# EAGLE library part 5_WAY_PUSH (library myParts)
pth2 - https://www.aliexpress.com/item/33020121294.html?spm=a2g0s.9042311.0.0.75f24c4dOQCrTt
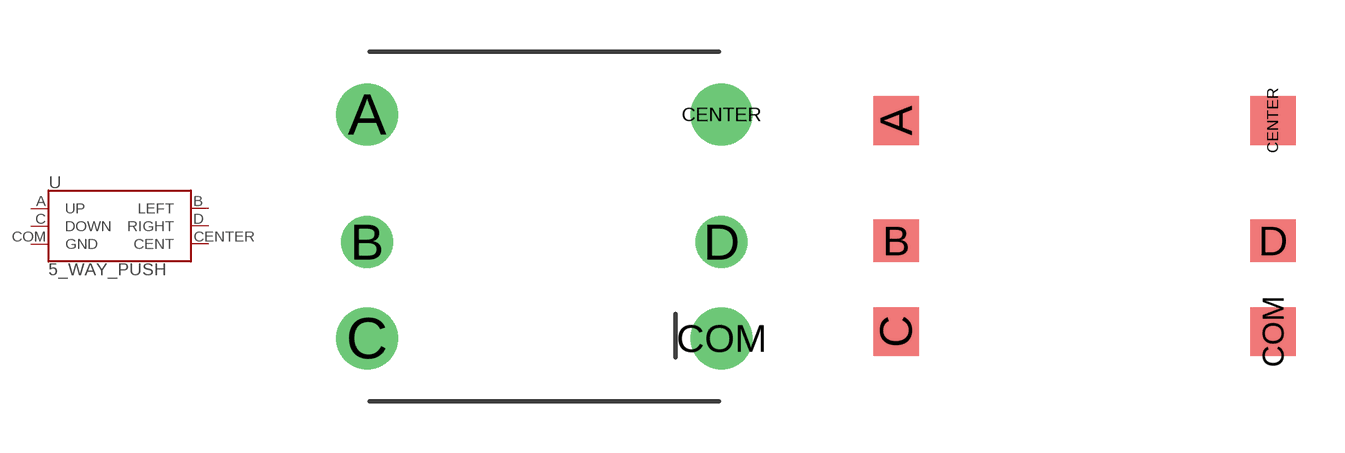
[diagram p2: symbol with the pads of 5-WAY_PTH; footprints 5-WAY_PTH, 5-WAY_SMD]

Designator prefix -

## 5_WAY_PUSH  [5-WAY_PTH]
A  UP
B  LEFT
C  DOWN
CENTER  CENT
COM  GND
D  RIGHT

## 5_WAY_PUSH5-WAY_SMD  [5-WAY_SMD]
Pads as for 5-WAY_PTH

## 5_WAY_PUSH5-WAY-ALIEXPRESS  [5-WAY_PTH2]
1  GND
2  LEFT
3  CENT
4  UP
5  RIGHT
6  DOWN

## Footprint 5-WAY_PTH (pad centres in mm)
drill 1.2: A -5.15,3.25; C -5.15,-3.25; CENTER 5.15,3.25; COM 5.15,-3.25
drill 1: B -5.15,-0.45; D 5.15,-0.45

## Footprint 5-WAY_SMD (pad centres in mm)
smd 1.4 x 1.5: A -5.8,3.25; C -5.8,-3.25; CENTER 5.8,3.25; COM 5.8,-3.25
smd 1.4 x 1.3: B -5.8,-0.45; D 5.8,-0.45

## Footprint 5-WAY_PTH2 (pad centres in mm)
drill 1.2: 1 -5.25,3.15; 3 -5.25,-3.35; 4 5.15,3.15; 6 5.25,-3.35
drill 1: 2 -5.25,0.35; 5 5.25,0.35